# Altium schematic symbol library Schematics.SchLib: 7 symbols
Pins are listed as number, name and electrical type; pins without a type are passive.

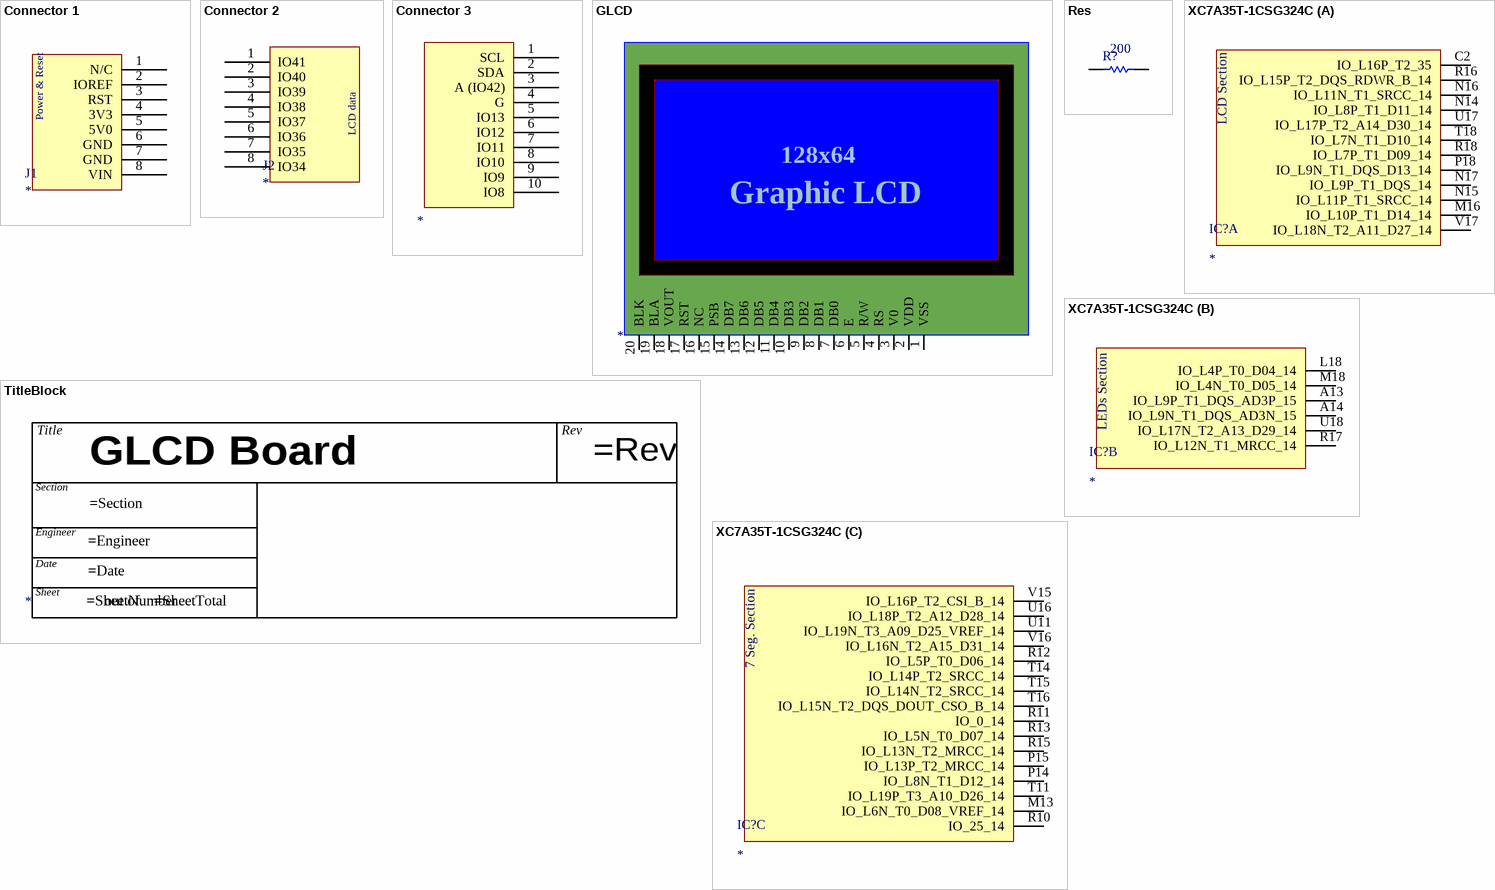
[diagram p0: symbols Connector 1 to XC7A35T-1CSG324C]

## Connector 1
designator J1
1x8 Header; Manufacturer_Name: Amphenol; Manufacturer_Part_Number: 10129378-908001BLF; Datasheet Link: https://cdn.amphenol-icc.com/media/wysiwyg/files/drawing/10129378.pdf; Height: 8.58mm; Mouser Part Number: 649-1012937890801BLF; Mouser Price/Stock: https://www.mouser.com/Search/Refine.aspx?Keyword=649-1012937890801BLF
footprint 1x8 HEADER
pins: 1 N/C, 2 IOREF, 3 RST, 4 3V3 (power), 5 5V0 (power), 6 GND (power), 7 GND (power), 8 VIN
text: Power & Reset

## Connector 2
designator J2
1x8 Header; Manufacturer_Name: Amphenol; Manufacturer_Part_Number: 10129378-908001BLF; Datasheet Link: https://cdn.amphenol-icc.com/media/wysiwyg/files/drawing/10129378.pdf; Height: 8.58mm; Mouser Part Number: 649-1012937890801BLF; Mouser Price/Stock: https://www.mouser.com/Search/Refine.aspx?Keyword=649-1012937890801BLF
footprint 1x8 HEADER
pins: 1 IO41, 2 IO40, 3 IO39, 4 IO38 (power), 5 IO37 (power), 6 IO36 (power), 7 IO35 (power), 8 IO34
text: LCD data

## Connector 3
designator J3
1x10 Header
footprint 1x10 Header
pins: 1 SCL, 2 SDA, 3 A (IO42), 4 G, 5 IO13, 6 IO12, 7 IO11, 8 IO10, 9 IO9, 10 IO8

## GLCD
designator GLCD 128x64
Graphic LCD 128x64
footprint GLCD (Graphic LCD 128x64)
pins: 1 VSS (power), 2 VDD (power), 3 V0, 4 RS, 5 R/W, 6 E, 7 DB0, 8 DB1, 9 DB2, 10 DB3, 11 DB4, 12 DB5, 13 DB6, 14 DB7, 15 PSB, 16 NC, 17 RST, 18 VOUT, 19 BLA, 20 BLK
text: 128x64; Graphic LCD

## Res
designator R?  value 200
Resistor; Published: 8-Jun-2000; LatestRevisionDate: 17-Jul-2002; LatestRevisionNote: Re-released for DXP Platform.; PackageReference: AXIAL-0.3; Publisher: Altium Limited; PackageDescription: Axial Device, Thru-Hole; 2 Leads; 0.3 in Pin Spacing
pins: 1, 2

## TitleBlock
designator *, comment Title Block  (value not drawn)  (graphical)
text: Title; Rev; GLCD Board; Section; Engineer; Date; Sheet; out of

## XC7A35T-1CSG324C
designator IC?
Integrated Circuit; Manufacturer_Name: XILINX; Manufacturer_Part_Number: XC7A35T-1CSG324C; Datasheet Link: http://www.xilinx.com/support/documentation/data_sheets/ds180_7Series_Overview.pdf; Height: 1.5mm; Mouser Part Number: 217-XC7A35T-1CSG324C; Mouser Price/Stock: https://www.mouser.co.uk/ProductDetail/Xilinx/XC7A35T-1CSG324C?qs=rrS6PyfT74cxvR58nHYPWA%3D%3D
part A pins: C2 IO_L16P_T2_35, M16 IO_L10P_T1_D14_14, N14 IO_L8P_T1_D11_14, N15 IO_L11P_T1_SRCC_14, N16 IO_L11N_T1_SRCC_14, N17 IO_L9P_T1_DQS_14, P18 IO_L9N_T1_DQS_D13_14, R16 IO_L15P_T2_DQS_RDWR_B_14, R18 IO_L7P_T1_D09_14, T18 IO_L7N_T1_D10_14, U17 IO_L17P_T2_A14_D30_14, V17 IO_L18N_T2_A11_D27_14
part B pins: A13 IO_L9P_T1_DQS_AD3P_15, A14 IO_L9N_T1_DQS_AD3N_15, L18 IO_L4P_T0_D04_14, M18 IO_L4N_T0_D05_14, R17 IO_L12N_T1_MRCC_14, U18 IO_L17N_T2_A13_D29_14
part C pins: M13 IO_L6N_T0_D08_VREF_14, P14 IO_L8N_T1_D12_14, P15 IO_L13P_T2_MRCC_14, R10 IO_25_14, R11 IO_0_14, R12 IO_L5P_T0_D06_14, R13 IO_L5N_T0_D07_14, R15 IO_L13N_T2_MRCC_14, T11 IO_L19P_T3_A10_D26_14, T14 IO_L14P_T2_SRCC_14, T15 IO_L14N_T2_SRCC_14, T16 IO_L15N_T2_DQS_DOUT_CSO_B_14, U11 IO_L19N_T3_A09_D25_VREF_14, U16 IO_L18P_T2_A12_D28_14, V15 IO_L16P_T2_CSI_B_14, V16 IO_L16N_T2_A15_D31_14
part A text: LCD Section
part B text: LEDs Section
part C text: 7 Seg. Section